# Altium schematic symbol library 220pF.SchLib: 1 symbol
Pins are listed as number, name and electrical type; pins without a type are passive.

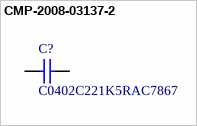
[diagram p0: symbol CMP-2008-03137-2]

## CMP-2008-03137-2
designator C?, comment C0402C221K5RAC7867
Manufacturer: Kemet; Part Number: C0402C221K5RAC7867
footprint CAPC1005X60X30ML05T10 (Chip Capacitor, 2-Leads, Body 1.00x0.50mm, IPC Low Density)
footprint CAPC1005X60X30NL05T10 (Chip Capacitor, 2-Leads, Body 1.00x0.50mm, IPC Medium Density)
footprint CAPC1005X60X30LL05T10 (Chip Capacitor, 2-Leads, Body 1.00x0.50mm, IPC High Density)
pins: 1, 2
1 alternate drawing of the same symbol